# EAGLE library part FPF2700 (library FPF2700)
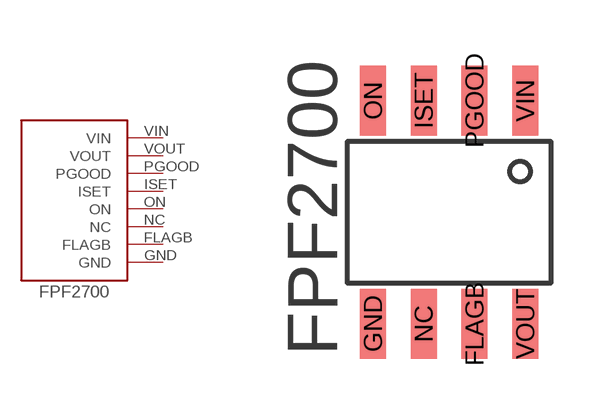
[diagram p0: symbol with the pads of FPF2700; footprint FPF2700]

Designator prefix -

## FPF2700  [FPF2700]
FLAGB  FLAGB
GND  GND
ISET  ISET
NC  NC
ON  ON
PGOOD  PGOOD
VIN  VIN
VOUT  VOUT

## Footprint FPF2700 (pad centres in mm)
smd 0.65 x 1.75: FLAGB 0.635,-2.794; GND -1.905,-2.794; ISET -0.635,2.794; NC -0.635,-2.794; ON -1.905,2.794; PGOOD 0.635,2.794; VIN 1.905,2.794; VOUT 1.905,-2.794